# Altium footprint library WF121.PcbLib: 1 footprints
Each footprint in its own frame and in the unit in brackets; x right, y up, seen from the top. Pads: shape width x height; smd on the part's side, far side on the other; paste and mask are expansions set on the pad; w line width, h text height; cw(c..) or ccw(c..) is an arc to the next point about the centre after c.
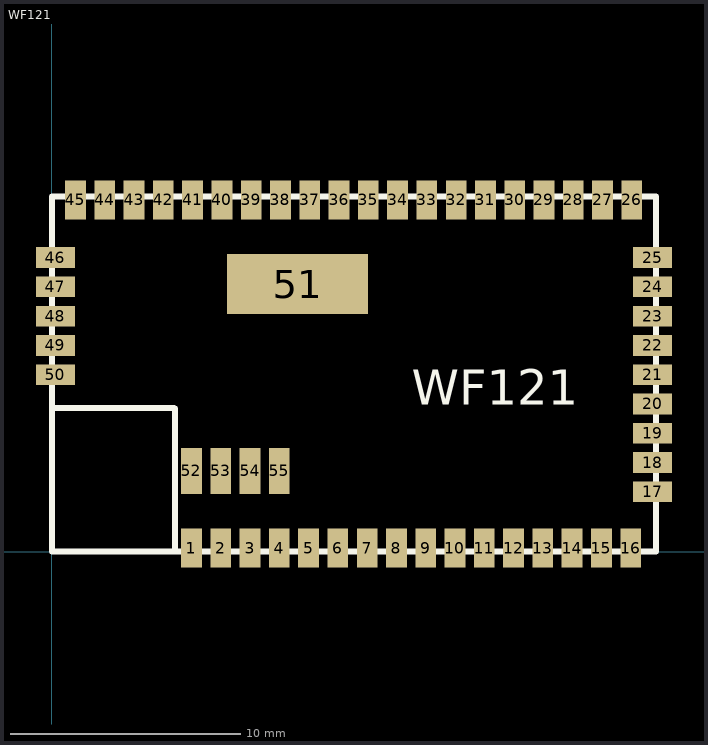
[diagram p0: the footprint, top view; thin cyan lines are the x and y axes]

## WF121 [mm]
pads (55):
  rect 0.9x1.7 smd: 1(6.05,0.15) 2(7.32,0.15) 3(8.59,0.15) 4(9.86,0.15) 5(11.13,0.15) 6(12.4,0.15) 7(13.67,0.15) 8(14.94,0.15) 9(16.21,0.15) 10(17.48,0.15) 11(18.75,0.15) 12(20.02,0.15) 13(21.29,0.15) 14(22.56,0.15) 15(23.83,0.15) 16(25.1,0.15) 26(25.15,15.25) 27(23.88,15.25) 28(22.61,15.25) 29(21.34,15.25) 30(20.07,15.25) 31(18.8,15.25) 32(17.53,15.25) 33(16.26,15.25) 34(14.99,15.25) 35(13.72,15.25) 36(12.45,15.25) 37(11.18,15.25) 38(9.91,15.25) 39(8.64,15.25) 40(7.37,15.25) 41(6.1,15.25) 42(4.83,15.25) 43(3.56,15.25) 44(2.29,15.25) 45(1.02,15.25)
  rect 1.7x0.9 smd: 17(26.05,2.59) 18(26.05,3.86) 19(26.05,5.13) 20(26.05,6.4) 21(26.05,7.67) 22(26.05,8.94) 23(26.05,10.21) 24(26.05,11.48) 25(26.05,12.75) 46(0.15,12.75) 47(0.15,11.48) 48(0.15,10.21) 49(0.15,8.94) 50(0.15,7.67)
  rect 6.1x2.6 smd: 51(10.65,11.6)
  rect 0.9x2 smd: 52(6.05,3.5) 53(7.32,3.5) 54(8.59,3.5) 55(9.86,3.5)
Top Overlay:
  lines w0.254: 0,6.223 5.3,6.223 ; 5.334,0 5.334,6.2 ; 0,0 0,15.4 26.2,15.4 26.2,0 0,0
  text "WF121" at 15.61,6.36 h1.52